# EAGLE library part ICL8038 (library wheat)
Function generator ICL8038
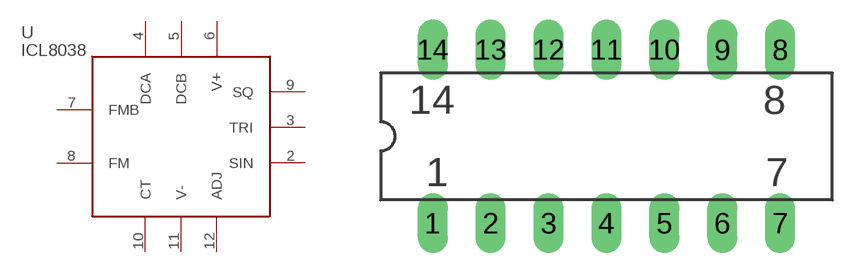
[diagram p253: symbol with the pads of DIP14; footprint DIP14]

Designator prefix U

## ICL8038  [DIP14]
2  SIN
3  TRI
4  DCA
5  DCB
6  V+
7  FMB
8  FM
9  SQ
10  CT
11  V-
12  ADJ

## Footprint DIP14 (pad centres in mm)
drill 0.813 long: 1 0,0; 2 2.54,0; 3 5.08,0; 4 7.62,0; 5 10.16,0; 6 12.7,0; 7 15.24,0; 8 15.24,7.62; 9 12.7,7.62; 10 10.16,7.62; 11 7.62,7.62; 12 5.08,7.62; 13 2.54,7.62; 14 0,7.62